# Altium footprint library MW7IC2725N.PcbLib: 2 footprints
Each footprint in its own frame and in the unit in brackets; x right, y up, seen from the top. Pads: shape width x height; smd on the part's side, far side on the other; paste and mask are expansions set on the pad; w line width, h text height; cw(c..) or ccw(c..) is an arc to the next point about the centre after c.
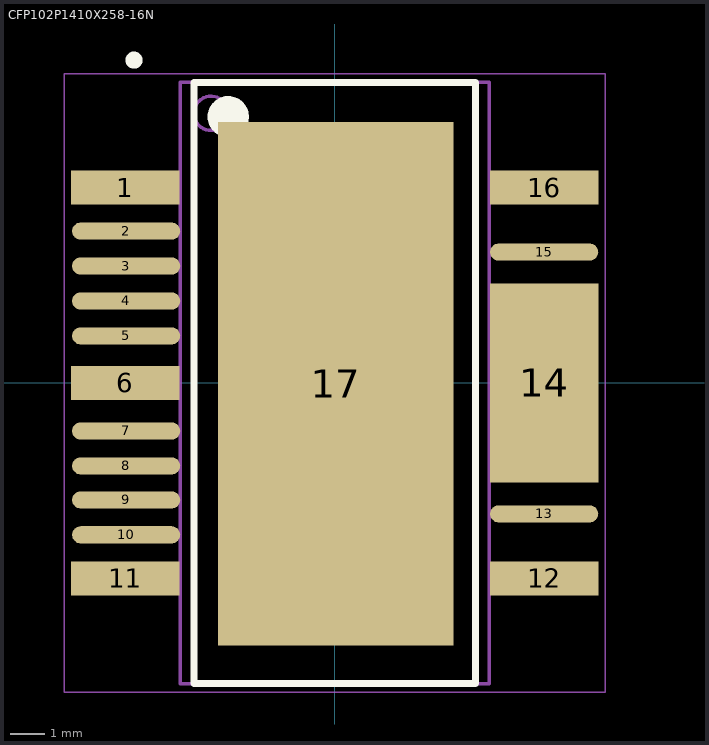
[diagram p0: the footprints below, top view; thin cyan lines are the x and y axes]

## CFP102P1410X258-16N [mm] "CFP, 16-Leads, Body 17.50x9.00mm (max), Pitch 1.02mm, IPC Medium Density"
height 2.58
pads (17):
  rect 3.15x1 smd: 1(-6.096,5.69) 6(-6.096,0) 11(-6.096,-5.69) 12(6.096,-5.69) 16(6.096,5.69)
  oval 3.15x0.5 smd: 2(-6.071,4.42) 3(-6.071,3.404) 4(-6.071,2.388) 5(-6.071,1.372) 7(-6.071,-1.397) 8(-6.071,-2.413) 9(-6.071,-3.404) 10(-6.071,-4.42) 13(6.096,-3.81) 15(6.096,3.81)
  rect 3.15x5.8 smd: 14(6.096,0)
  rect 6.86x15.24 smd: 17(0.025,-0.025)
Top Overlay:
  circle w0.6: c-3.1,7.75 r0.3
  circle w0.25: c-5.842,9.398 r0.125
  lines w0.2: -4.1,-8.75 -4.1,8.75 4.1,8.75 4.1,-8.75 -4.1,-8.75
Mechanical 13:
  circle w0.1: c-3.6,7.85 r0.5
  lines w0.1: -4.5,-8.75 -4.5,8.75 4.5,8.75 4.5,-8.75 -4.5,-8.75
Mechanical 15:
  lines w0.05: -7.875,-9 -7.875,9 7.875,9 7.875,-9 -7.875,-9
  lines w0.1: -0.5,0 0.5,0 ; 0,-0.5 0,0.5
3D body: height 2.58, standoff 0.1, extent -4.5,-8.75 4.5,8.75

## MW7IC2725N [mil] "2300-2700MHz 4W PA"